# Altium integrated library TI Amplifiers and Linear Operational Amplifier High Speed.IntLib: 1100 symbols (part 8 of 44)
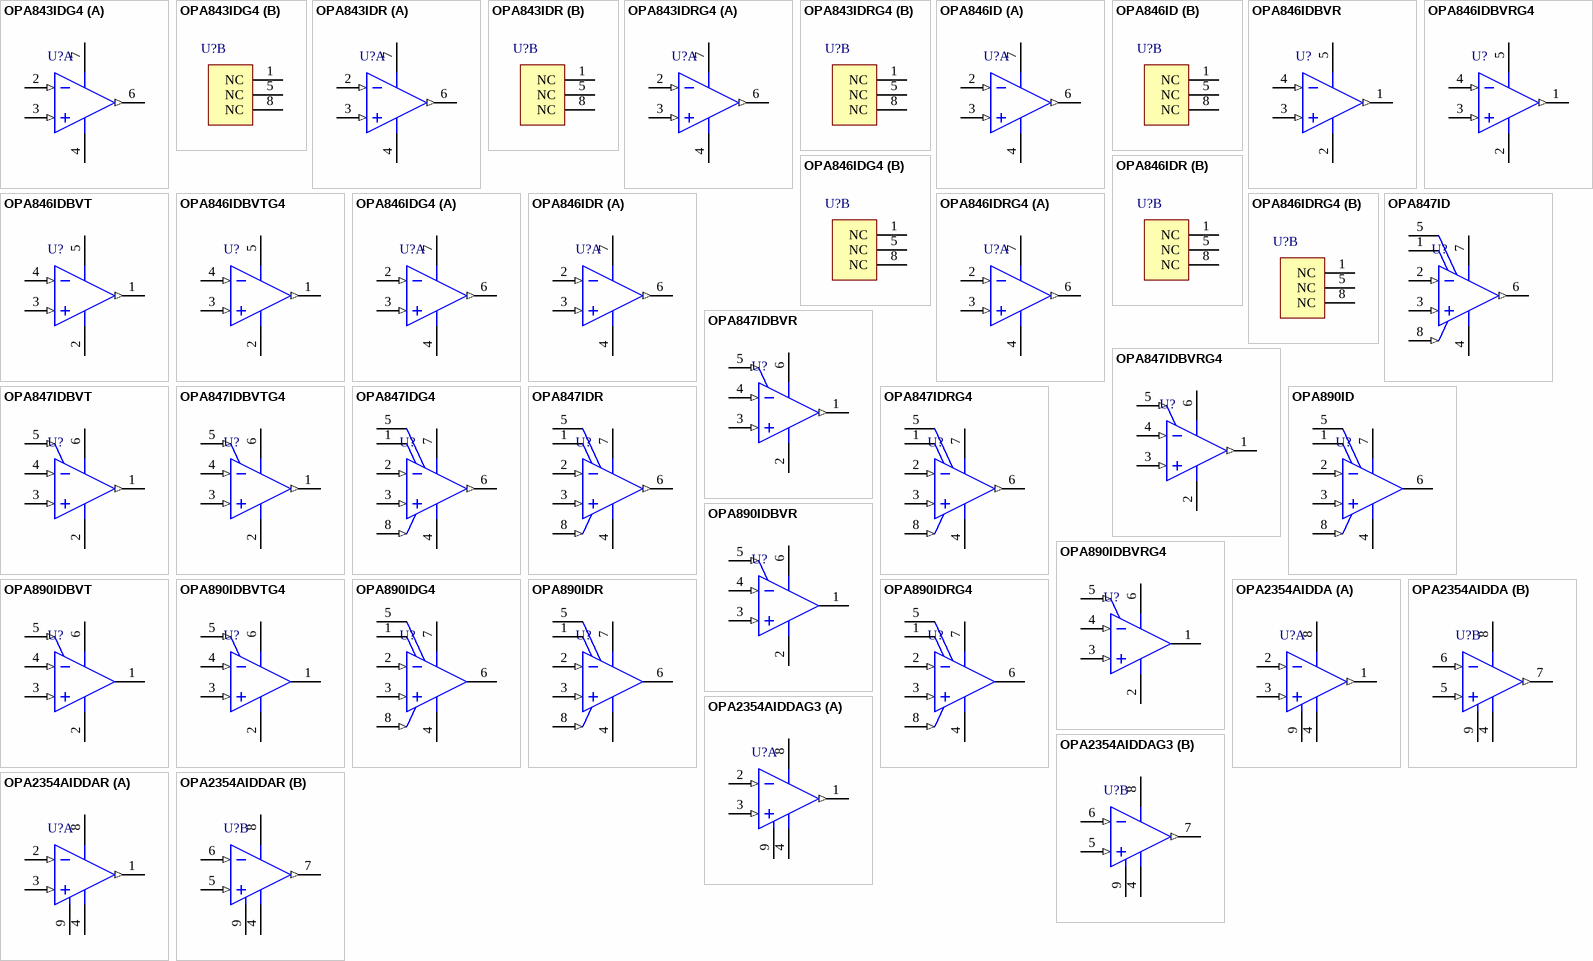
[diagram p58: symbols OPA843IDG4 to OPA2354AIDDAR]

## OPA843IDRG4
designator U?
Wideband, Low Distortion, Medium Gain, Voltage Feedback Operational Amplifier, 8 to 12 V, -40 to 85 degC, 8-pin SOIC (D8), Green (RoHS & no Sb/Br); Manufacturer: Texas Instruments; PartNumber: OPA843IDRG4; 2nd Harmonic(dBc): 96; 3rd Harmonic(dBc): 110; @ MHz: 5; Acl, min stable gain(V/V): 3; BW @ Acl(MHz): 500; Diff Gain(%): 0.001; Diff Phase(deg): 0.012; Iib(Max)(nA): 3700; Io(Typ)(mA): 100; Iq per channel(Max)(mA): 22.5; Number of Channels: 1; Settling Time (0.1%)(Typ)(ns): 7.5; Slew Rate(Typ)(V/us): 1000; Sub Family: High Output Current Amplifier (>=50mA), High Speed Amplifier (>=50MHz); THD (Fc is 1 MHz)(Typ)(dB): -95; Vio(Max)(mV): 1.5; Vn at Flatband(Typ)(nV/rtHz): 2; Vs(Max)(V): 12; Vs(Min)(V): 8; DatasheetVersion: SBOS268C; PackageVersion: 4040047-3/M, 06/2011; PackageReference: D8; PackageDescription: 8-Pin Plastic Small Outline, Body 4.9 x 3.9 mm, Pitch 1.27 mm; Supplier 1: Digi-Key; Supplier Part Number 1: OPA843IDRG4-ND; Supplier 2: Mouser; Supplier Part Number 2: 595-OPA843IDRG4; Eco-Plan: Green (RoHS & no Sb/Br); Mounting Technology: Surface Mount; Code_JEDEC: MS-012; ComponentLink1Description: Manufacturer URL; ComponentLink1URL: http://www.ti.com/; ComponentLink2Description: Datasheet; ComponentLink2URL: http://www.ti.com/general/docs/lit/getliterature.tsp?genericPartNumber=OPA843&fileType=pdf; ComponentLink3Description: Package Specification; ComponentLink3URL: http://www.ti.com/litv/pdf/msoi002j
footprint TI-D8_N (SOIC, 8-Leads, Body 4.9x3.9mm, Pitch 1.27mm, IPC Medium Density)
footprint TI-D8_L (SOIC, 8-Leads, Body 4.9x3.9mm, Pitch 1.27mm, IPC High Density)
footprint TI-D8_M (SOIC, 8-Leads, Body 4.9x3.9mm, Pitch 1.27mm, IPC Low Density)
part A pins: 2 IN- (in), 3 IN+ (in), 4 VS- (power), 6 OUT (out), 7 VS+ (power)
part B pins: 1 NC, 5 NC, 8 NC

## OPA846ID
designator U?
Wideband, Low Noise, Voltage Feedback Operational Amplifier, 10 to 12 V, -40 to 85 degC, 8-pin SOIC (D8), Green (RoHS & no Sb/Br); Manufacturer: Texas Instruments; PartNumber: OPA846ID; 2nd Harmonic(dBc): 100; 3rd Harmonic(dBc): 112; @ MHz: 5; Acl, min stable gain(V/V): 7; BW @ Acl(MHz): 500; Diff Gain(%): 0.02; Iib(Max)(nA): 21000; Io(Typ)(mA): 80; Iq per channel(Max)(mA): 13.2; Number of Channels: 1; Settling Time (0.1%)(Typ)(ns): 15; Slew Rate(Typ)(V/us): 625; Sub Family: High Output Current Amplifier (>=50mA), High Speed Amplifier (>=50MHz); THD (Fc is 1 MHz)(Typ)(dB): -92; Vio(Max)(mV): 0.6; Vn at Flatband(Typ)(nV/rtHz): 1.2; Vs(Max)(V): 12; Vs(Min)(V): 10; DatasheetVersion: SBOS250E; PackageVersion: 4040047-3/M, 06/2011; PackageReference: D8; PackageDescription: 8-Pin Plastic Small Outline, Body 4.9 x 3.9 mm, Pitch 1.27 mm; Supplier 1: Digi-Key; Supplier Part Number 1: 296-14775-5-ND; Supplier 2: Farnell; Supplier Part Number 2: 1212331; Supplier 3: Newark; Supplier Part Number 3: 01M8440; Supplier 4: Newark; Supplier Part Number 4: 61H5165; Supplier 5: Mouser; Supplier Part Number 5: 595-OPA846ID; Diff Phase(deg): 0.02; Eco-Plan: Green (RoHS & no Sb/Br); Mounting Technology: Surface Mount; Code_JEDEC: MS-012; ComponentLink1Description: Manufacturer URL; ComponentLink1URL: http://www.ti.com/; ComponentLink2Description: Datasheet; ComponentLink2URL: http://www.ti.com/general/docs/lit/getliterature.tsp?genericPartNumber=OPA846&fileType=pdf; ComponentLink3Description: Package Specification; ComponentLink3URL: http://www.ti.com/litv/pdf/msoi002j
footprint TI-D8_N (SOIC, 8-Leads, Body 4.9x3.9mm, Pitch 1.27mm, IPC Medium Density)
footprint TI-D8_L (SOIC, 8-Leads, Body 4.9x3.9mm, Pitch 1.27mm, IPC High Density)
footprint TI-D8_M (SOIC, 8-Leads, Body 4.9x3.9mm, Pitch 1.27mm, IPC Low Density)
part A pins: 2 IN- (in), 3 IN+ (in), 4 VS- (power), 6 OUT (out), 7 VS+ (power)
part B pins: 1 NC, 5 NC, 8 NC

## OPA846IDBVR
designator U?
Wideband, Low Noise, Voltage Feedback Operational Amplifier, 10 to 12 V, -40 to 85 degC, 5-pin SOT23 (DBV5), Green (RoHS & no Sb/Br); Manufacturer: Texas Instruments; PartNumber: OPA846IDBVR; 2nd Harmonic(dBc): 100; 3rd Harmonic(dBc): 112; @ MHz: 5; Acl, min stable gain(V/V): 7; BW @ Acl(MHz): 500; Diff Gain(%): 0.02; Iib(Max)(nA): 21000; Io(Typ)(mA): 80; Iq per channel(Max)(mA): 13.2; Number of Channels: 1; Settling Time (0.1%)(Typ)(ns): 15; Slew Rate(Typ)(V/us): 625; Sub Family: High Output Current Amplifier (>=50mA), High Speed Amplifier (>=50MHz); THD (Fc is 1 MHz)(Typ)(dB): -92; Vio(Max)(mV): 0.6; Vn at Flatband(Typ)(nV/rtHz): 1.2; Vs(Max)(V): 12; Vs(Min)(V): 10; DatasheetVersion: SBOS250E; PackageVersion: 4073253-4/K, 03/2006; PackageReference: DBV5; PackageDescription: 5-Pin Plastic Small Outline, Body 1.6 x 2.9 mm, Pitch 0.95 mm; Supplier 1: Digi-Key; Supplier Part Number 1: OPA846IDBVR-ND; Supplier 2: Newark; Supplier Part Number 2: 61H5166; Supplier 3: Mouser; Supplier Part Number 3: 595-OPA846IDBVR; Diff Phase(deg): 0.02; Eco-Plan: Green (RoHS & no Sb/Br); Mounting Technology: Surface Mount; Code_JEDEC: MO-178; ComponentLink1Description: Manufacturer URL; ComponentLink1URL: http://www.ti.com/; ComponentLink2Description: Datasheet; ComponentLink2URL: http://www.ti.com/general/docs/lit/getliterature.tsp?genericPartNumber=OPA846&fileType=pdf; ComponentLink3Description: Package Specification; ComponentLink3URL: http://www.ti.com/litv/pdf/mpds018i
footprint TI-DBV5_N (SOT23, 5-Leads, Body 2.9x1.6mm, Pitch 0.95mm, IPC Medium Density)
footprint TI-DBV5_L (SOT23, 5-Leads, Body 2.9x1.6mm, Pitch 0.95mm, IPC High Density)
footprint TI-DBV5_M (SOT23, 5-Leads, Body 2.9x1.6mm, Pitch 0.95mm, IPC Low Density)
pins: 1 OUT (out), 2 VS- (power), 3 IN+ (in), 4 IN- (in), 5 VS+ (power)

## OPA846IDBVRG4
designator U?
Wideband, Low Noise, Voltage Feedback Operational Amplifier, 10 to 12 V, -40 to 85 degC, 5-pin SOT23 (DBV5), Green (RoHS & no Sb/Br); Manufacturer: Texas Instruments; PartNumber: OPA846IDBVRG4; 2nd Harmonic(dBc): 100; 3rd Harmonic(dBc): 112; @ MHz: 5; Acl, min stable gain(V/V): 7; BW @ Acl(MHz): 500; Diff Gain(%): 0.02; Iib(Max)(nA): 21000; Io(Typ)(mA): 80; Iq per channel(Max)(mA): 13.2; Number of Channels: 1; Settling Time (0.1%)(Typ)(ns): 15; Slew Rate(Typ)(V/us): 625; Sub Family: High Output Current Amplifier (>=50mA), High Speed Amplifier (>=50MHz); THD (Fc is 1 MHz)(Typ)(dB): -92; Vio(Max)(mV): 0.6; Vn at Flatband(Typ)(nV/rtHz): 1.2; Vs(Max)(V): 12; Vs(Min)(V): 10; DatasheetVersion: SBOS250E; PackageVersion: 4073253-4/K, 03/2006; PackageReference: DBV5; PackageDescription: 5-Pin Plastic Small Outline, Body 1.6 x 2.9 mm, Pitch 0.95 mm; Supplier 1: Digi-Key; Supplier Part Number 1: OPA846IDBVRG4-ND; Supplier 2: Mouser; Supplier Part Number 2: 595-OPA846IDBVRG4; Diff Phase(deg): 0.02; Eco-Plan: Green (RoHS & no Sb/Br); Mounting Technology: Surface Mount; Code_JEDEC: MO-178; ComponentLink1Description: Manufacturer URL; ComponentLink1URL: http://www.ti.com/; ComponentLink2Description: Datasheet; ComponentLink2URL: http://www.ti.com/general/docs/lit/getliterature.tsp?genericPartNumber=OPA846&fileType=pdf; ComponentLink3Description: Package Specification; ComponentLink3URL: http://www.ti.com/litv/pdf/mpds018i
footprint TI-DBV5_N (SOT23, 5-Leads, Body 2.9x1.6mm, Pitch 0.95mm, IPC Medium Density)
footprint TI-DBV5_L (SOT23, 5-Leads, Body 2.9x1.6mm, Pitch 0.95mm, IPC High Density)
footprint TI-DBV5_M (SOT23, 5-Leads, Body 2.9x1.6mm, Pitch 0.95mm, IPC Low Density)
pins: 1 OUT (out), 2 VS- (power), 3 IN+ (in), 4 IN- (in), 5 VS+ (power)

## OPA846IDBVT
designator U?
Wideband, Low Noise, Voltage Feedback Operational Amplifier, 10 to 12 V, -40 to 85 degC, 5-pin SOT23 (DBV5), Green (RoHS & no Sb/Br); Manufacturer: Texas Instruments; PartNumber: OPA846IDBVT; 2nd Harmonic(dBc): 100; 3rd Harmonic(dBc): 112; @ MHz: 5; Acl, min stable gain(V/V): 7; BW @ Acl(MHz): 500; Diff Gain(%): 0.02; Iib(Max)(nA): 21000; Io(Typ)(mA): 80; Iq per channel(Max)(mA): 13.2; Number of Channels: 1; Settling Time (0.1%)(Typ)(ns): 15; Slew Rate(Typ)(V/us): 625; Sub Family: High Output Current Amplifier (>=50mA), High Speed Amplifier (>=50MHz); THD (Fc is 1 MHz)(Typ)(dB): -92; Vio(Max)(mV): 0.6; Vn at Flatband(Typ)(nV/rtHz): 1.2; Vs(Max)(V): 12; Vs(Min)(V): 10; DatasheetVersion: SBOS250E; PackageVersion: 4073253-4/K, 03/2006; PackageReference: DBV5; PackageDescription: 5-Pin Plastic Small Outline, Body 1.6 x 2.9 mm, Pitch 0.95 mm; Supplier 1: Digi-Key; Supplier Part Number 1: 296-14776-2-ND; Supplier 2: Digi-Key; Supplier Part Number 2: 296-14776-1-ND; Supplier 3: Digi-Key; Supplier Part Number 3: 296-14776-6-ND; Supplier 4: Farnell; Supplier Part Number 4: 8434328; Supplier 5: Newark; Supplier Part Number 5: 86W6072; Supplier 6: Newark; Supplier Part Number 6: 61H5167; Supplier 7: Mouser; Supplier Part Number 7: 595-OPA846IDBVT; Diff Phase(deg): 0.02; Eco-Plan: Green (RoHS & no Sb/Br); Mounting Technology: Surface Mount; Code_JEDEC: MO-178; ComponentLink1Description: Manufacturer URL; ComponentLink1URL: http://www.ti.com/; ComponentLink2Description: Datasheet; ComponentLink2URL: http://www.ti.com/general/docs/lit/getliterature.tsp?genericPartNumber=OPA846&fileType=pdf; ComponentLink3Description: Package Specification; ComponentLink3URL: http://www.ti.com/litv/pdf/mpds018i
footprint TI-DBV5_N (SOT23, 5-Leads, Body 2.9x1.6mm, Pitch 0.95mm, IPC Medium Density)
footprint TI-DBV5_L (SOT23, 5-Leads, Body 2.9x1.6mm, Pitch 0.95mm, IPC High Density)
footprint TI-DBV5_M (SOT23, 5-Leads, Body 2.9x1.6mm, Pitch 0.95mm, IPC Low Density)
pins: 1 OUT (out), 2 VS- (power), 3 IN+ (in), 4 IN- (in), 5 VS+ (power)

## OPA846IDBVTG4
designator U?
Wideband, Low Noise, Voltage Feedback Operational Amplifier, 10 to 12 V, -40 to 85 degC, 5-pin SOT23 (DBV5), Green (RoHS & no Sb/Br); Manufacturer: Texas Instruments; PartNumber: OPA846IDBVTG4; 2nd Harmonic(dBc): 100; 3rd Harmonic(dBc): 112; @ MHz: 5; Acl, min stable gain(V/V): 7; BW @ Acl(MHz): 500; Diff Gain(%): 0.02; Iib(Max)(nA): 21000; Io(Typ)(mA): 80; Iq per channel(Max)(mA): 13.2; Number of Channels: 1; Settling Time (0.1%)(Typ)(ns): 15; Slew Rate(Typ)(V/us): 625; Sub Family: High Output Current Amplifier (>=50mA), High Speed Amplifier (>=50MHz); THD (Fc is 1 MHz)(Typ)(dB): -92; Vio(Max)(mV): 0.6; Vn at Flatband(Typ)(nV/rtHz): 1.2; Vs(Max)(V): 12; Vs(Min)(V): 10; DatasheetVersion: SBOS250E; PackageVersion: 4073253-4/K, 03/2006; PackageReference: DBV5; PackageDescription: 5-Pin Plastic Small Outline, Body 1.6 x 2.9 mm, Pitch 0.95 mm; Supplier 1: Digi-Key; Supplier Part Number 1: OPA846IDBVTG4-ND; Supplier 2: Farnell; Supplier Part Number 2: 1207078; Supplier 3: Newark; Supplier Part Number 3: 81K3714; Supplier 4: Mouser; Supplier Part Number 4: 595-OPA846IDBVTG4; Diff Phase(deg): 0.02; Eco-Plan: Green (RoHS & no Sb/Br); Mounting Technology: Surface Mount; Code_JEDEC: MO-178; ComponentLink1Description: Manufacturer URL; ComponentLink1URL: http://www.ti.com/; ComponentLink2Description: Datasheet; ComponentLink2URL: http://www.ti.com/general/docs/lit/getliterature.tsp?genericPartNumber=OPA846&fileType=pdf; ComponentLink3Description: Package Specification; ComponentLink3URL: http://www.ti.com/litv/pdf/mpds018i
footprint TI-DBV5_N (SOT23, 5-Leads, Body 2.9x1.6mm, Pitch 0.95mm, IPC Medium Density)
footprint TI-DBV5_L (SOT23, 5-Leads, Body 2.9x1.6mm, Pitch 0.95mm, IPC High Density)
footprint TI-DBV5_M (SOT23, 5-Leads, Body 2.9x1.6mm, Pitch 0.95mm, IPC Low Density)
pins: 1 OUT (out), 2 VS- (power), 3 IN+ (in), 4 IN- (in), 5 VS+ (power)

## OPA846IDG4
designator U?
Wideband, Low Noise, Voltage Feedback Operational Amplifier, 10 to 12 V, -40 to 85 degC, 8-pin SOIC (D8), Green (RoHS & no Sb/Br); Manufacturer: Texas Instruments; PartNumber: OPA846IDG4; 2nd Harmonic(dBc): 100; 3rd Harmonic(dBc): 112; @ MHz: 5; Acl, min stable gain(V/V): 7; BW @ Acl(MHz): 500; Diff Gain(%): 0.02; Iib(Max)(nA): 21000; Io(Typ)(mA): 80; Iq per channel(Max)(mA): 13.2; Number of Channels: 1; Settling Time (0.1%)(Typ)(ns): 15; Slew Rate(Typ)(V/us): 625; Sub Family: High Output Current Amplifier (>=50mA), High Speed Amplifier (>=50MHz); THD (Fc is 1 MHz)(Typ)(dB): -92; Vio(Max)(mV): 0.6; Vn at Flatband(Typ)(nV/rtHz): 1.2; Vs(Max)(V): 12; Vs(Min)(V): 10; DatasheetVersion: SBOS250E; PackageVersion: 4040047-3/M, 06/2011; PackageReference: D8; PackageDescription: 8-Pin Plastic Small Outline, Body 4.9 x 3.9 mm, Pitch 1.27 mm; Supplier 1: Digi-Key; Supplier Part Number 1: OPA846IDG4-ND; Supplier 2: Mouser; Supplier Part Number 2: 595-OPA846IDG4; Diff Phase(deg): 0.02; Eco-Plan: Green (RoHS & no Sb/Br); Mounting Technology: Surface Mount; Code_JEDEC: MS-012; ComponentLink1Description: Manufacturer URL; ComponentLink1URL: http://www.ti.com/; ComponentLink2Description: Datasheet; ComponentLink2URL: http://www.ti.com/general/docs/lit/getliterature.tsp?genericPartNumber=OPA846&fileType=pdf; ComponentLink3Description: Package Specification; ComponentLink3URL: http://www.ti.com/litv/pdf/msoi002j
footprint TI-D8_N (SOIC, 8-Leads, Body 4.9x3.9mm, Pitch 1.27mm, IPC Medium Density)
footprint TI-D8_L (SOIC, 8-Leads, Body 4.9x3.9mm, Pitch 1.27mm, IPC High Density)
footprint TI-D8_M (SOIC, 8-Leads, Body 4.9x3.9mm, Pitch 1.27mm, IPC Low Density)
part A pins: 2 IN- (in), 3 IN+ (in), 4 VS- (power), 6 OUT (out), 7 VS+ (power)
part B pins: 1 NC, 5 NC, 8 NC

## OPA846IDR
designator U?
Wideband, Low Noise, Voltage Feedback Operational Amplifier, 10 to 12 V, -40 to 85 degC, 8-pin SOIC (D8), Green (RoHS & no Sb/Br); Manufacturer: Texas Instruments; PartNumber: OPA846IDR; 2nd Harmonic(dBc): 100; 3rd Harmonic(dBc): 112; @ MHz: 5; Acl, min stable gain(V/V): 7; BW @ Acl(MHz): 500; Diff Gain(%): 0.02; Iib(Max)(nA): 21000; Io(Typ)(mA): 80; Iq per channel(Max)(mA): 13.2; Number of Channels: 1; Settling Time (0.1%)(Typ)(ns): 15; Slew Rate(Typ)(V/us): 625; Sub Family: High Output Current Amplifier (>=50mA), High Speed Amplifier (>=50MHz); THD (Fc is 1 MHz)(Typ)(dB): -92; Vio(Max)(mV): 0.6; Vn at Flatband(Typ)(nV/rtHz): 1.2; Vs(Max)(V): 12; Vs(Min)(V): 10; DatasheetVersion: SBOS250E; PackageVersion: 4040047-3/M, 06/2011; PackageReference: D8; PackageDescription: 8-Pin Plastic Small Outline, Body 4.9 x 3.9 mm, Pitch 1.27 mm; Supplier 1: Digi-Key; Supplier Part Number 1: OPA846IDR-ND; Supplier 2: Mouser; Supplier Part Number 2: 595-OPA846IDR; Diff Phase(deg): 0.02; Eco-Plan: Green (RoHS & no Sb/Br); Mounting Technology: Surface Mount; Code_JEDEC: MS-012; ComponentLink1Description: Manufacturer URL; ComponentLink1URL: http://www.ti.com/; ComponentLink2Description: Datasheet; ComponentLink2URL: http://www.ti.com/general/docs/lit/getliterature.tsp?genericPartNumber=OPA846&fileType=pdf; ComponentLink3Description: Package Specification; ComponentLink3URL: http://www.ti.com/litv/pdf/msoi002j
footprint TI-D8_N (SOIC, 8-Leads, Body 4.9x3.9mm, Pitch 1.27mm, IPC Medium Density)
footprint TI-D8_L (SOIC, 8-Leads, Body 4.9x3.9mm, Pitch 1.27mm, IPC High Density)
footprint TI-D8_M (SOIC, 8-Leads, Body 4.9x3.9mm, Pitch 1.27mm, IPC Low Density)
part A pins: 2 IN- (in), 3 IN+ (in), 4 VS- (power), 6 OUT (out), 7 VS+ (power)
part B pins: 1 NC, 5 NC, 8 NC

## OPA846IDRG4
designator U?
Wideband, Low Noise, Voltage Feedback Operational Amplifier, 10 to 12 V, -40 to 85 degC, 8-pin SOIC (D8), Green (RoHS & no Sb/Br); Manufacturer: Texas Instruments; PartNumber: OPA846IDRG4; 2nd Harmonic(dBc): 100; 3rd Harmonic(dBc): 112; @ MHz: 5; Acl, min stable gain(V/V): 7; BW @ Acl(MHz): 500; Diff Gain(%): 0.02; Iib(Max)(nA): 21000; Io(Typ)(mA): 80; Iq per channel(Max)(mA): 13.2; Number of Channels: 1; Settling Time (0.1%)(Typ)(ns): 10; Slew Rate(Typ)(V/us): 625; Sub Family: High Output Current Amplifier (>=50mA), High Speed Amplifier (>=50MHz); THD (Fc is 1 MHz)(Typ)(dB): -92; Vio(Max)(mV): 0.6; Vn at Flatband(Typ)(nV/rtHz): 1.2; Vs(Max)(V): 12; DatasheetVersion: SBOS250E; PackageVersion: 4040047-3/M, 06/2011; PackageReference: D8; PackageDescription: 8-Pin Plastic Small Outline, Body 4.9 x 3.9 mm, Pitch 1.27 mm; Supplier 1: Digi-Key; Supplier Part Number 1: OPA846IDRG4-ND; Supplier 2: Mouser; Supplier Part Number 2: 595-OPA846IDRG4; Diff Phase(deg): 0.02; Eco-Plan: Green (RoHS & no Sb/Br); Vs(Min)(V): 10; Mounting Technology: Surface Mount; Code_JEDEC: MS-012; ComponentLink1Description: Manufacturer URL; ComponentLink1URL: http://www.ti.com/; ComponentLink2Description: Datasheet; ComponentLink2URL: http://www.ti.com/general/docs/lit/getliterature.tsp?genericPartNumber=OPA846&fileType=pdf; ComponentLink3Description: Package Specification; ComponentLink3URL: http://www.ti.com/litv/pdf/msoi002j
footprint TI-D8_N (SOIC, 8-Leads, Body 4.9x3.9mm, Pitch 1.27mm, IPC Medium Density)
footprint TI-D8_L (SOIC, 8-Leads, Body 4.9x3.9mm, Pitch 1.27mm, IPC High Density)
footprint TI-D8_M (SOIC, 8-Leads, Body 4.9x3.9mm, Pitch 1.27mm, IPC Low Density)
part A pins: 2 IN- (in), 3 IN+ (in), 4 VS- (power), 6 OUT (out), 7 VS+ (power)
part B pins: 1 NC, 5 NC, 8 NC

## OPA847ID
designator U?
Wideband, Ultra-Low Noise, Voltage Feedback Operational Amplifier with Shutdown, 10 to 12 V, -40 to 85 degC, 8-pin SOIC (D8), Green (RoHS & no Sb/Br); Manufacturer: Texas Instruments; PartNumber: OPA847ID; 2nd Harmonic(dBc): 105; 3rd Harmonic(dBc): 110; @ MHz: 5; Acl, min stable gain(V/V): 12; BW @ Acl(MHz): 600; Iib(Max)(nA): 42000; Io(Typ)(mA): 75; Iq per channel(Max)(mA): 18.9; Number of Channels: 1; Settling Time (0.1%)(Typ)(ns): 20; Slew Rate(Typ)(V/us): 950; Sub Family: High Output Current Amplifier (>=50mA), High Speed Amplifier (>=50MHz), Low Offset Voltage Amplifier (<=500uV); THD (Fc is 1 MHz)(Typ)(dB): -96; Vio(Max)(mV): 0.5; Vn at Flatband(Typ)(nV/rtHz): 0.85; Vs(Min)(V): 10; DatasheetVersion: SBOS251E; PackageVersion: 4040047-3/M, 06/2011; PackageReference: D8; PackageDescription: 8-Pin Plastic Small Outline, Body 4.9 x 3.9 mm, Pitch 1.27 mm; Supplier 1: Digi-Key; Supplier Part Number 1: 296-15171-5-ND; Supplier 2: Farnell; Supplier Part Number 2: 2118343; Supplier 3: Newark; Supplier Part Number 3: 04M6520; Supplier 4: Mouser; Supplier Part Number 4: 595-OPA847ID; Eco-Plan: Green (RoHS & no Sb/Br); Vs(Max)(V): 12; Mounting Technology: Surface Mount; Code_JEDEC: MS-012; ComponentLink1Description: Manufacturer URL; ComponentLink1URL: http://www.ti.com/; ComponentLink2Description: Datasheet; ComponentLink2URL: http://www.ti.com/general/docs/lit/getliterature.tsp?genericPartNumber=OPA847&fileType=pdf; ComponentLink3Description: Package Specification; ComponentLink3URL: http://www.ti.com/litv/pdf/msoi002j
footprint TI-D8_N (SOIC, 8-Leads, Body 4.9x3.9mm, Pitch 1.27mm, IPC Medium Density)
footprint TI-D8_L (SOIC, 8-Leads, Body 4.9x3.9mm, Pitch 1.27mm, IPC High Density)
footprint TI-D8_M (SOIC, 8-Leads, Body 4.9x3.9mm, Pitch 1.27mm, IPC Low Density)
pins: 1 NC, 2 IN- (in), 3 IN+ (in), 4 VS- (power), 5 NC, 6 OUT (out), 7 VS+ (power), 8 ~{DIS} (in)

## OPA847IDBVR
designator U?
Wideband, Ultra-Low Noise, Voltage Feedback Operational Amplifier with Shutdown, 10 to 12 V, -40 to 85 degC, 6-pin SOT23 (DBV6), Green (RoHS & no Sb/Br); Manufacturer: Texas Instruments; PartNumber: OPA847IDBVR; 2nd Harmonic(dBc): 105; 3rd Harmonic(dBc): 110; @ MHz: 5; Acl, min stable gain(V/V): 12; BW @ Acl(MHz): 600; Iib(Max)(nA): 42000; Io(Typ)(mA): 75; Iq per channel(Max)(mA): 18.9; Number of Channels: 1; Settling Time (0.1%)(Typ)(ns): 20; Slew Rate(Typ)(V/us): 950; Sub Family: High Output Current Amplifier (>=50mA), High Speed Amplifier (>=50MHz), Low Offset Voltage Amplifier (<=500uV); THD (Fc is 1 MHz)(Typ)(dB): -96; Vio(Max)(mV): 0.5; Vn at Flatband(Typ)(nV/rtHz): 0.85; Vs(Min)(V): 10; DatasheetVersion: SBOS251E; PackageVersion: 4073253-5/K, 03/2006; PackageReference: DBV6; PackageDescription: 6-Pin Plastic Small Outline, Body 1.6 x 2.9 mm, Pitch 0.95 mm; Supplier 1: Digi-Key; Supplier Part Number 1: OPA847IDBVR-ND; Supplier 2: Newark; Supplier Part Number 2: 73H4300; Supplier 3: Mouser; Supplier Part Number 3: 595-OPA847IDBVR; Eco-Plan: Green (RoHS & no Sb/Br); Vs(Max)(V): 12; Mounting Technology: Surface Mount; Code_JEDEC: MO-178; ComponentLink1Description: Manufacturer URL; ComponentLink1URL: http://www.ti.com/; ComponentLink2Description: Datasheet; ComponentLink2URL: http://www.ti.com/general/docs/lit/getliterature.tsp?genericPartNumber=OPA847&fileType=pdf; ComponentLink3Description: Package Specification; ComponentLink3URL: http://www.ti.com/litv/pdf/mpds026h
footprint TI-DBV6_N (SOT23, 6-Leads, Body 2.9x1.6mm, Pitch 0.95mm, IPC Medium Density)
footprint TI-DBV6_L (SOT23, 6-Leads, Body 2.9x1.6mm, Pitch 0.95mm, IPC High Density)
footprint TI-DBV6_M (SOT23, 6-Leads, Body 2.9x1.6mm, Pitch 0.95mm, IPC Low Density)
pins: 1 OUT (out), 2 VS- (power), 3 IN+ (in), 4 IN- (in), 5 ~{DIS} (in), 6 VS+ (power)

## OPA847IDBVRG4
designator U?
Wideband, Ultra-Low Noise, Voltage Feedback Operational Amplifier with Shutdown, 10 to 12 V, -40 to 85 degC, 6-pin SOT23 (DBV6), Green (RoHS & no Sb/Br); Manufacturer: Texas Instruments; PartNumber: OPA847IDBVRG4; 2nd Harmonic(dBc): 105; 3rd Harmonic(dBc): 110; @ MHz: 5; Acl, min stable gain(V/V): 12; BW @ Acl(MHz): 600; Iib(Max)(nA): 42000; Io(Typ)(mA): 75; Iq per channel(Max)(mA): 18.9; Number of Channels: 1; Settling Time (0.1%)(Typ)(ns): 20; Slew Rate(Typ)(V/us): 950; Sub Family: High Output Current Amplifier (>=50mA), High Speed Amplifier (>=50MHz), Low Offset Voltage Amplifier (<=500uV); THD (Fc is 1 MHz)(Typ)(dB): -96; Vio(Max)(mV): 0.5; Vn at Flatband(Typ)(nV/rtHz): 0.85; Vs(Min)(V): 10; DatasheetVersion: SBOS251E; PackageVersion: 4073253-5/K, 03/2006; PackageReference: DBV6; PackageDescription: 6-Pin Plastic Small Outline, Body 1.6 x 2.9 mm, Pitch 0.95 mm; Supplier 1: Digi-Key; Supplier Part Number 1: OPA847IDBVRG4-ND; Supplier 2: Newark; Supplier Part Number 2: 24K4703; Supplier 3: Mouser; Supplier Part Number 3: 595-OPA847IDBVRG4; Eco-Plan: Green (RoHS & no Sb/Br); Vs(Max)(V): 12; Mounting Technology: Surface Mount; Code_JEDEC: MO-178; ComponentLink1Description: Manufacturer URL; ComponentLink1URL: http://www.ti.com/; ComponentLink2Description: Datasheet; ComponentLink2URL: http://www.ti.com/general/docs/lit/getliterature.tsp?genericPartNumber=OPA847&fileType=pdf; ComponentLink3Description: Package Specification; ComponentLink3URL: http://www.ti.com/litv/pdf/mpds026h
footprint TI-DBV6_N (SOT23, 6-Leads, Body 2.9x1.6mm, Pitch 0.95mm, IPC Medium Density)
footprint TI-DBV6_L (SOT23, 6-Leads, Body 2.9x1.6mm, Pitch 0.95mm, IPC High Density)
footprint TI-DBV6_M (SOT23, 6-Leads, Body 2.9x1.6mm, Pitch 0.95mm, IPC Low Density)
pins: 1 OUT (out), 2 VS- (power), 3 IN+ (in), 4 IN- (in), 5 ~{DIS} (in), 6 VS+ (power)

## OPA847IDBVT
designator U?
Wideband, Ultra-Low Noise, Voltage Feedback Operational Amplifier with Shutdown, 10 to 12 V, -40 to 85 degC, 6-pin SOT23 (DBV6), Green (RoHS & no Sb/Br); Manufacturer: Texas Instruments; PartNumber: OPA847IDBVT; 2nd Harmonic(dBc): 105; 3rd Harmonic(dBc): 110; @ MHz: 5; Acl, min stable gain(V/V): 12; BW @ Acl(MHz): 600; Iib(Max)(nA): 42000; Io(Typ)(mA): 75; Iq per channel(Max)(mA): 18.9; Number of Channels: 1; Settling Time (0.1%)(Typ)(ns): 20; Slew Rate(Typ)(V/us): 950; Sub Family: High Output Current Amplifier (>=50mA), High Speed Amplifier (>=50MHz), Low Offset Voltage Amplifier (<=500uV); THD (Fc is 1 MHz)(Typ)(dB): -96; Vio(Max)(mV): 0.5; Vn at Flatband(Typ)(nV/rtHz): 0.85; Vs(Min)(V): 10; DatasheetVersion: SBOS251E; PackageVersion: 4073253-5/K, 03/2006; PackageReference: DBV6; PackageDescription: 6-Pin Plastic Small Outline, Body 1.6 x 2.9 mm, Pitch 0.95 mm; Supplier 1: Digi-Key; Supplier Part Number 1: 296-15172-2-ND; Supplier 2: Digi-Key; Supplier Part Number 2: 296-15172-1-ND; Supplier 3: Digi-Key; Supplier Part Number 3: 296-15172-6-ND; Supplier 4: Farnell; Supplier Part Number 4: 1564933; Supplier 5: Newark; Supplier Part Number 5: 73H4301; Supplier 6: Mouser; Supplier Part Number 6: 595-OPA847IDBVT; Eco-Plan: Green (RoHS & no Sb/Br); Vs(Max)(V): 12; Mounting Technology: Surface Mount; Code_JEDEC: MO-178; ComponentLink1Description: Manufacturer URL; ComponentLink1URL: http://www.ti.com/; ComponentLink2Description: Datasheet; ComponentLink2URL: http://www.ti.com/general/docs/lit/getliterature.tsp?genericPartNumber=OPA847&fileType=pdf; ComponentLink3Description: Package Specification; ComponentLink3URL: http://www.ti.com/litv/pdf/mpds026h
footprint TI-DBV6_N (SOT23, 6-Leads, Body 2.9x1.6mm, Pitch 0.95mm, IPC Medium Density)
footprint TI-DBV6_L (SOT23, 6-Leads, Body 2.9x1.6mm, Pitch 0.95mm, IPC High Density)
footprint TI-DBV6_M (SOT23, 6-Leads, Body 2.9x1.6mm, Pitch 0.95mm, IPC Low Density)
pins: 1 OUT (out), 2 VS- (power), 3 IN+ (in), 4 IN- (in), 5 ~{DIS} (in), 6 VS+ (power)

## OPA847IDBVTG4
designator U?
Wideband, Ultra-Low Noise, Voltage Feedback Operational Amplifier with Shutdown, 10 to 12 V, -40 to 85 degC, 6-pin SOT23 (DBV6), Green (RoHS & no Sb/Br); Manufacturer: Texas Instruments; PartNumber: OPA847IDBVTG4; 2nd Harmonic(dBc): 105; 3rd Harmonic(dBc): 110; @ MHz: 5; Acl, min stable gain(V/V): 12; BW @ Acl(MHz): 600; Iib(Max)(nA): 42000; Io(Typ)(mA): 75; Iq per channel(Max)(mA): 18.9; Number of Channels: 1; Settling Time (0.1%)(Typ)(ns): 20; Slew Rate(Typ)(V/us): 950; Sub Family: High Output Current Amplifier (>=50mA), High Speed Amplifier (>=50MHz), Low Offset Voltage Amplifier (<=500uV); THD (Fc is 1 MHz)(Typ)(dB): -96; Vio(Max)(mV): 0.5; Vn at Flatband(Typ)(nV/rtHz): 0.85; Vs(Min)(V): 10; DatasheetVersion: SBOS251E; PackageVersion: 4073253-5/K, 03/2006; PackageReference: DBV6; PackageDescription: 6-Pin Plastic Small Outline, Body 1.6 x 2.9 mm, Pitch 0.95 mm; Supplier 1: Digi-Key; Supplier Part Number 1: OPA847IDBVTG4-ND; Supplier 2: Farnell; Supplier Part Number 2: 1207080; Supplier 3: Newark; Supplier Part Number 3: 97K6866; Supplier 4: Newark; Supplier Part Number 4: 73K9274; Supplier 5: Mouser; Supplier Part Number 5: 595-OPA847IDBVTG4; Eco-Plan: Green (RoHS & no Sb/Br); Vs(Max)(V): 12; Mounting Technology: Surface Mount; Code_JEDEC: MO-178; ComponentLink1Description: Manufacturer URL; ComponentLink1URL: http://www.ti.com/; ComponentLink2Description: Datasheet; ComponentLink2URL: http://www.ti.com/general/docs/lit/getliterature.tsp?genericPartNumber=OPA847&fileType=pdf; ComponentLink3Description: Package Specification; ComponentLink3URL: http://www.ti.com/litv/pdf/mpds026h
footprint TI-DBV6_N (SOT23, 6-Leads, Body 2.9x1.6mm, Pitch 0.95mm, IPC Medium Density)
footprint TI-DBV6_L (SOT23, 6-Leads, Body 2.9x1.6mm, Pitch 0.95mm, IPC High Density)
footprint TI-DBV6_M (SOT23, 6-Leads, Body 2.9x1.6mm, Pitch 0.95mm, IPC Low Density)
pins: 1 OUT (out), 2 VS- (power), 3 IN+ (in), 4 IN- (in), 5 ~{DIS} (in), 6 VS+ (power)

## OPA847IDG4
designator U?
Wideband, Ultra-Low Noise, Voltage Feedback Operational Amplifier with Shutdown, 10 to 12 V, -40 to 85 degC, 8-pin SOIC (D8), Green (RoHS & no Sb/Br); Manufacturer: Texas Instruments; PartNumber: OPA847IDG4; 2nd Harmonic(dBc): 105; 3rd Harmonic(dBc): 110; @ MHz: 5; Acl, min stable gain(V/V): 12; BW @ Acl(MHz): 600; Iib(Max)(nA): 42000; Io(Typ)(mA): 75; Iq per channel(Max)(mA): 18.9; Number of Channels: 1; Settling Time (0.1%)(Typ)(ns): 20; Slew Rate(Typ)(V/us): 950; Sub Family: High Output Current Amplifier (>=50mA), High Speed Amplifier (>=50MHz), Low Offset Voltage Amplifier (<=500uV); THD (Fc is 1 MHz)(Typ)(dB): -96; Vio(Max)(mV): 0.5; Vn at Flatband(Typ)(nV/rtHz): 0.85; Vs(Min)(V): 10; DatasheetVersion: SBOS251E; PackageVersion: 4040047-3/M, 06/2011; PackageReference: D8; PackageDescription: 8-Pin Plastic Small Outline, Body 4.9 x 3.9 mm, Pitch 1.27 mm; Supplier 1: Digi-Key; Supplier Part Number 1: OPA847IDG4-ND; Supplier 2: Farnell; Supplier Part Number 2: 1207079; Supplier 3: Newark; Supplier Part Number 3: 97K6867; Supplier 4: Newark; Supplier Part Number 4: 81K3715; Supplier 5: Mouser; Supplier Part Number 5: 595-OPA847IDG4; Eco-Plan: Green (RoHS & no Sb/Br); Vs(Max)(V): 12; Mounting Technology: Surface Mount; Code_JEDEC: MS-012; ComponentLink1Description: Manufacturer URL; ComponentLink1URL: http://www.ti.com/; ComponentLink2Description: Datasheet; ComponentLink2URL: http://www.ti.com/general/docs/lit/getliterature.tsp?genericPartNumber=OPA847&fileType=pdf; ComponentLink3Description: Package Specification; ComponentLink3URL: http://www.ti.com/litv/pdf/msoi002j
footprint TI-D8_N (SOIC, 8-Leads, Body 4.9x3.9mm, Pitch 1.27mm, IPC Medium Density)
footprint TI-D8_L (SOIC, 8-Leads, Body 4.9x3.9mm, Pitch 1.27mm, IPC High Density)
footprint TI-D8_M (SOIC, 8-Leads, Body 4.9x3.9mm, Pitch 1.27mm, IPC Low Density)
pins: 1 NC, 2 IN- (in), 3 IN+ (in), 4 VS- (power), 5 NC, 6 OUT (out), 7 VS+ (power), 8 ~{DIS} (in)

## OPA847IDR
designator U?
Wideband, Ultra-Low Noise, Voltage Feedback Operational Amplifier with Shutdown, 10 to 12 V, -40 to 85 degC, 8-pin SOIC (D8), Green (RoHS & no Sb/Br); Manufacturer: Texas Instruments; PartNumber: OPA847IDR; 2nd Harmonic(dBc): 105; 3rd Harmonic(dBc): 110; @ MHz: 5; Acl, min stable gain(V/V): 12; BW @ Acl(MHz): 600; Iib(Max)(nA): 42000; Io(Typ)(mA): 75; Iq per channel(Max)(mA): 18.9; Number of Channels: 1; Settling Time (0.1%)(Typ)(ns): 20; Slew Rate(Typ)(V/us): 950; Sub Family: High Output Current Amplifier (>=50mA), High Speed Amplifier (>=50MHz), Low Offset Voltage Amplifier (<=500uV); THD (Fc is 1 MHz)(Typ)(dB): -96; Vio(Max)(mV): 0.5; Vn at Flatband(Typ)(nV/rtHz): 0.85; Vs(Min)(V): 10; DatasheetVersion: SBOS251E; PackageVersion: 4040047-3/M, 06/2011; PackageReference: D8; PackageDescription: 8-Pin Plastic Small Outline, Body 4.9 x 3.9 mm, Pitch 1.27 mm; Supplier 1: Digi-Key; Supplier Part Number 1: OPA847IDR-ND; Supplier 2: Newark; Supplier Part Number 2: 73H4302; Supplier 3: Mouser; Supplier Part Number 3: 595-OPA847IDR; Eco-Plan: Green (RoHS & no Sb/Br); Vs(Max)(V): 12; Mounting Technology: Surface Mount; Code_JEDEC: MS-012; ComponentLink1Description: Manufacturer URL; ComponentLink1URL: http://www.ti.com/; ComponentLink2Description: Datasheet; ComponentLink2URL: http://www.ti.com/general/docs/lit/getliterature.tsp?genericPartNumber=OPA847&fileType=pdf; ComponentLink3Description: Package Specification; ComponentLink3URL: http://www.ti.com/litv/pdf/msoi002j
footprint TI-D8_N (SOIC, 8-Leads, Body 4.9x3.9mm, Pitch 1.27mm, IPC Medium Density)
footprint TI-D8_L (SOIC, 8-Leads, Body 4.9x3.9mm, Pitch 1.27mm, IPC High Density)
footprint TI-D8_M (SOIC, 8-Leads, Body 4.9x3.9mm, Pitch 1.27mm, IPC Low Density)
pins: 1 NC, 2 IN- (in), 3 IN+ (in), 4 VS- (power), 5 NC, 6 OUT (out), 7 VS+ (power), 8 ~{DIS} (in)

## OPA847IDRG4
designator U?
Wideband, Ultra-Low Noise, Voltage Feedback Operational Amplifier with Shutdown, 10 to 12 V, -40 to 85 degC, 8-pin SOIC (D8), Green (RoHS & no Sb/Br); Manufacturer: Texas Instruments; PartNumber: OPA847IDRG4; 2nd Harmonic(dBc): 105; 3rd Harmonic(dBc): 110; @ MHz: 5; Acl, min stable gain(V/V): 12; BW @ Acl(MHz): 600; Iib(Max)(nA): 42000; Io(Typ)(mA): 75; Iq per channel(Max)(mA): 18.9; Number of Channels: 1; Settling Time (0.1%)(Typ)(ns): 10; Slew Rate(Typ)(V/us): 950; Sub Family: High Output Current Amplifier (>=50mA), High Speed Amplifier (>=50MHz), Low Offset Voltage Amplifier (<=500uV); THD (Fc is 1 MHz)(Typ)(dB): -96; Vio(Max)(mV): 0.5; Vn at Flatband(Typ)(nV/rtHz): 0.85; DatasheetVersion: SBOS251E; PackageVersion: 4040047-3/M, 06/2011; PackageReference: D8; PackageDescription: 8-Pin Plastic Small Outline, Body 4.9 x 3.9 mm, Pitch 1.27 mm; Supplier 1: Digi-Key; Supplier Part Number 1: OPA847IDRG4-ND; Supplier 2: Mouser; Supplier Part Number 2: 595-OPA847IDRG4; Eco-Plan: Green (RoHS & no Sb/Br); Vs(Max)(V): 12; Vs(Min)(V): 10; Mounting Technology: Surface Mount; Code_JEDEC: MS-012; ComponentLink1Description: Manufacturer URL; ComponentLink1URL: http://www.ti.com/; ComponentLink2Description: Datasheet; ComponentLink2URL: http://www.ti.com/general/docs/lit/getliterature.tsp?genericPartNumber=OPA847&fileType=pdf; ComponentLink3Description: Package Specification; ComponentLink3URL: http://www.ti.com/litv/pdf/msoi002j
footprint TI-D8_N (SOIC, 8-Leads, Body 4.9x3.9mm, Pitch 1.27mm, IPC Medium Density)
footprint TI-D8_L (SOIC, 8-Leads, Body 4.9x3.9mm, Pitch 1.27mm, IPC High Density)
footprint TI-D8_M (SOIC, 8-Leads, Body 4.9x3.9mm, Pitch 1.27mm, IPC Low Density)
pins: 1 NC, 2 IN- (in), 3 IN+ (in), 4 VS- (power), 5 NC, 6 OUT (out), 7 VS+ (power), 8 ~{DIS} (in)

## OPA890ID
designator U?
Low Power, Wideband, Voltage Feedback Operational Amplifier with Disable, 3 to 12 V, -40 to 85 degC, 8-pin SOIC (D8), Green (RoHS & no Sb/Br); Manufacturer: Texas Instruments; PartNumber: OPA890ID; 2nd Harmonic(dBc): 88; 3rd Harmonic(dBc): 89; @ MHz: 1; BW @ Acl(MHz): 260; Diff Gain(%): 0.05; Diff Phase(deg): 0.03; Iib(Max)(nA): 2000; Io(Typ)(mA): 40; Iq per channel(Max)(mA): 1.2; Settling Time (0.1%)(Typ)(ns): 10; Slew Rate(Typ)(V/us): 500; Sub Family: High Speed Amplifier (>=50MHz); THD (Fc is 1 MHz)(Typ)(dB): -87; Vio(Max)(mV): 6; Vn at Flatband(Typ)(nV/rtHz): 8; Vs(Max)(V): 12; Vs(Min)(V): 3; DatasheetVersion: SBOS369B; PackageVersion: 4040047-3/M, 06/2011; PackageReference: D8; PackageDescription: 8-Pin Plastic Small Outline, Body 4.9 x 3.9 mm, Pitch 1.27 mm; Supplier 1: Digi-Key; Supplier Part Number 1: 296-21959-5-ND; Supplier 2: Farnell; Supplier Part Number 2: 1603399; Supplier 3: Newark; Supplier Part Number 3: 12N2334; Supplier 4: Newark; Supplier Part Number 4: 48M0893; Supplier 5: Mouser; Supplier Part Number 5: 595-OPA890ID; Acl, min stable gain(V/V): 1; Eco-Plan: Green (RoHS & no Sb/Br); Number of Channels: 1; Mounting Technology: Surface Mount; Code_JEDEC: MS-012; ComponentLink1Description: Manufacturer URL; ComponentLink1URL: http://www.ti.com/; ComponentLink2Description: Datasheet; ComponentLink2URL: http://www.ti.com/general/docs/lit/getliterature.tsp?genericPartNumber=OPA890&fileType=pdf; ComponentLink3Description: Package Specification; ComponentLink3URL: http://www.ti.com/litv/pdf/msoi002j
footprint TI-D8_N (SOIC, 8-Leads, Body 4.9x3.9mm, Pitch 1.27mm, IPC Medium Density)
footprint TI-D8_L (SOIC, 8-Leads, Body 4.9x3.9mm, Pitch 1.27mm, IPC High Density)
footprint TI-D8_M (SOIC, 8-Leads, Body 4.9x3.9mm, Pitch 1.27mm, IPC Low Density)
pins: 1 NC, 2 IN- (in), 3 IN+ (in), 4 VS- (power), 5 NC, 6 OUT (hiz), 7 VS+ (power), 8 ~{DIS} (in)

## OPA890IDBVR
designator U?
Low Power, Wideband, Voltage Feedback Operational Amplifier with Disable, 3 to 12 V, -40 to 85 degC, 6-pin SOT23 (DBV6), Green (RoHS & no Sb/Br); Manufacturer: Texas Instruments; PartNumber: OPA890IDBVR; 2nd Harmonic(dBc): 88; 3rd Harmonic(dBc): 89; @ MHz: 1; BW @ Acl(MHz): 260; Diff Gain(%): 0.05; Diff Phase(deg): 0.03; Iib(Max)(nA): 2000; Io(Typ)(mA): 40; Iq per channel(Max)(mA): 1.2; Settling Time (0.1%)(Typ)(ns): 10; Slew Rate(Typ)(V/us): 500; Sub Family: High Speed Amplifier (>=50MHz); THD (Fc is 1 MHz)(Typ)(dB): -87; Vio(Max)(mV): 6; Vn at Flatband(Typ)(nV/rtHz): 8; Vs(Max)(V): 12; Vs(Min)(V): 3; DatasheetVersion: SBOS369B; PackageVersion: 4073253-5/K, 03/2006; PackageReference: DBV6; PackageDescription: 6-Pin Plastic Small Outline, Body 1.6 x 2.9 mm, Pitch 0.95 mm; Supplier 1: Digi-Key; Supplier Part Number 1: OPA890IDBVR-ND; Supplier 2: Newark; Supplier Part Number 2: 48M0894; Supplier 3: Mouser; Supplier Part Number 3: 595-OPA890IDBVR; Acl, min stable gain(V/V): 1; Eco-Plan: Green (RoHS & no Sb/Br); Number of Channels: 1; Mounting Technology: Surface Mount; Code_JEDEC: MO-178; ComponentLink1Description: Manufacturer URL; ComponentLink1URL: http://www.ti.com/; ComponentLink2Description: Datasheet; ComponentLink2URL: http://www.ti.com/general/docs/lit/getliterature.tsp?genericPartNumber=OPA890&fileType=pdf; ComponentLink3Description: Package Specification; ComponentLink3URL: http://www.ti.com/litv/pdf/mpds026h
footprint TI-DBV6_N (SOT23, 6-Leads, Body 2.9x1.6mm, Pitch 0.95mm, IPC Medium Density)
footprint TI-DBV6_L (SOT23, 6-Leads, Body 2.9x1.6mm, Pitch 0.95mm, IPC High Density)
footprint TI-DBV6_M (SOT23, 6-Leads, Body 2.9x1.6mm, Pitch 0.95mm, IPC Low Density)
pins: 1 OUT (hiz), 2 VS- (power), 3 IN+ (in), 4 IN- (in), 5 ~{DIS} (in), 6 VS+ (power)

## OPA890IDBVRG4
designator U?
Low Power, Wideband, Voltage Feedback Operational Amplifier with Disable, 3 to 12 V, -40 to 85 degC, 6-pin SOT23 (DBV6), Green (RoHS & no Sb/Br); Manufacturer: Texas Instruments; PartNumber: OPA890IDBVRG4; 2nd Harmonic(dBc): 88; 3rd Harmonic(dBc): 89; @ MHz: 1; BW @ Acl(MHz): 260; Diff Gain(%): 0.05; Diff Phase(deg): 0.03; Iib(Max)(nA): 2000; Io(Typ)(mA): 40; Iq per channel(Max)(mA): 1.2; Settling Time (0.1%)(Typ)(ns): 10; Slew Rate(Typ)(V/us): 500; Sub Family: High Speed Amplifier (>=50MHz); THD (Fc is 1 MHz)(Typ)(dB): -87; Vio(Max)(mV): 6; Vn at Flatband(Typ)(nV/rtHz): 8; Vs(Max)(V): 12; Vs(Min)(V): 3; DatasheetVersion: SBOS369B; PackageVersion: 4073253-5/K, 03/2006; PackageReference: DBV6; PackageDescription: 6-Pin Plastic Small Outline, Body 1.6 x 2.9 mm, Pitch 0.95 mm; Supplier 1: Digi-Key; Supplier Part Number 1: OPA890IDBVRG4-ND; Supplier 2: Mouser; Supplier Part Number 2: 595-OPA890IDBVRG4; Acl, min stable gain(V/V): 1; Eco-Plan: Green (RoHS & no Sb/Br); Number of Channels: 1; Mounting Technology: Surface Mount; Code_JEDEC: MO-178; ComponentLink1Description: Manufacturer URL; ComponentLink1URL: http://www.ti.com/; ComponentLink2Description: Datasheet; ComponentLink2URL: http://www.ti.com/general/docs/lit/getliterature.tsp?genericPartNumber=OPA890&fileType=pdf; ComponentLink3Description: Package Specification; ComponentLink3URL: http://www.ti.com/litv/pdf/mpds026h
footprint TI-DBV6_N (SOT23, 6-Leads, Body 2.9x1.6mm, Pitch 0.95mm, IPC Medium Density)
footprint TI-DBV6_L (SOT23, 6-Leads, Body 2.9x1.6mm, Pitch 0.95mm, IPC High Density)
footprint TI-DBV6_M (SOT23, 6-Leads, Body 2.9x1.6mm, Pitch 0.95mm, IPC Low Density)
pins: 1 OUT (hiz), 2 VS- (power), 3 IN+ (in), 4 IN- (in), 5 ~{DIS} (in), 6 VS+ (power)

## OPA890IDBVT
designator U?
Low Power, Wideband, Voltage Feedback Operational Amplifier with Disable, 3 to 12 V, -40 to 85 degC, 6-pin SOT23 (DBV6), Green (RoHS & no Sb/Br); Manufacturer: Texas Instruments; PartNumber: OPA890IDBVT; 2nd Harmonic(dBc): 88; 3rd Harmonic(dBc): 89; @ MHz: 1; BW @ Acl(MHz): 260; Diff Gain(%): 0.05; Diff Phase(deg): 0.03; Iib(Max)(nA): 2000; Io(Typ)(mA): 40; Iq per channel(Max)(mA): 1.2; Settling Time (0.1%)(Typ)(ns): 10; Slew Rate(Typ)(V/us): 500; Sub Family: High Speed Amplifier (>=50MHz); THD (Fc is 1 MHz)(Typ)(dB): -87; Vio(Max)(mV): 6; Vn at Flatband(Typ)(nV/rtHz): 8; Vs(Max)(V): 12; Vs(Min)(V): 3; DatasheetVersion: SBOS369B; PackageVersion: 4073253-5/K, 03/2006; PackageReference: DBV6; PackageDescription: 6-Pin Plastic Small Outline, Body 1.6 x 2.9 mm, Pitch 0.95 mm; Supplier 1: Digi-Key; Supplier Part Number 1: 296-21960-2-ND; Supplier 2: Digi-Key; Supplier Part Number 2: 296-21960-1-ND; Supplier 3: Digi-Key; Supplier Part Number 3: 296-21960-6-ND; Supplier 4: Newark; Supplier Part Number 4: 48M0895; Supplier 5: Mouser; Supplier Part Number 5: 595-OPA890IDBVT; Acl, min stable gain(V/V): 1; Eco-Plan: Green (RoHS & no Sb/Br); Number of Channels: 1; Mounting Technology: Surface Mount; Code_JEDEC: MO-178; ComponentLink1Description: Manufacturer URL; ComponentLink1URL: http://www.ti.com/; ComponentLink2Description: Datasheet; ComponentLink2URL: http://www.ti.com/general/docs/lit/getliterature.tsp?genericPartNumber=OPA890&fileType=pdf; ComponentLink3Description: Package Specification; ComponentLink3URL: http://www.ti.com/litv/pdf/mpds026h
footprint TI-DBV6_N (SOT23, 6-Leads, Body 2.9x1.6mm, Pitch 0.95mm, IPC Medium Density)
footprint TI-DBV6_L (SOT23, 6-Leads, Body 2.9x1.6mm, Pitch 0.95mm, IPC High Density)
footprint TI-DBV6_M (SOT23, 6-Leads, Body 2.9x1.6mm, Pitch 0.95mm, IPC Low Density)
pins: 1 OUT (hiz), 2 VS- (power), 3 IN+ (in), 4 IN- (in), 5 ~{DIS} (in), 6 VS+ (power)

## OPA890IDBVTG4
designator U?
Low Power, Wideband, Voltage Feedback Operational Amplifier with Disable, 3 to 12 V, -40 to 85 degC, 6-pin SOT23 (DBV6), Green (RoHS & no Sb/Br); Manufacturer: Texas Instruments; PartNumber: OPA890IDBVTG4; 2nd Harmonic(dBc): 88; 3rd Harmonic(dBc): 89; @ MHz: 1; BW @ Acl(MHz): 260; Diff Gain(%): 0.05; Diff Phase(deg): 0.03; Iib(Max)(nA): 2000; Io(Typ)(mA): 40; Iq per channel(Max)(mA): 1.2; Settling Time (0.1%)(Typ)(ns): 10; Slew Rate(Typ)(V/us): 500; Sub Family: High Speed Amplifier (>=50MHz); THD (Fc is 1 MHz)(Typ)(dB): -87; Vio(Max)(mV): 6; Vn at Flatband(Typ)(nV/rtHz): 8; Vs(Max)(V): 12; Vs(Min)(V): 3; DatasheetVersion: SBOS369B; PackageVersion: 4073253-5/K, 03/2006; PackageReference: DBV6; PackageDescription: 6-Pin Plastic Small Outline, Body 1.6 x 2.9 mm, Pitch 0.95 mm; Supplier 1: Digi-Key; Supplier Part Number 1: OPA890IDBVTG4-ND; Supplier 2: Newark; Supplier Part Number 2: 52M5933; Supplier 3: Mouser; Supplier Part Number 3: 595-OPA890IDBVTG4; Acl, min stable gain(V/V): 1; Eco-Plan: Green (RoHS & no Sb/Br); Number of Channels: 1; Mounting Technology: Surface Mount; Code_JEDEC: MO-178; ComponentLink1Description: Manufacturer URL; ComponentLink1URL: http://www.ti.com/; ComponentLink2Description: Datasheet; ComponentLink2URL: http://www.ti.com/general/docs/lit/getliterature.tsp?genericPartNumber=OPA890&fileType=pdf; ComponentLink3Description: Package Specification; ComponentLink3URL: http://www.ti.com/litv/pdf/mpds026h
footprint TI-DBV6_N (SOT23, 6-Leads, Body 2.9x1.6mm, Pitch 0.95mm, IPC Medium Density)
footprint TI-DBV6_L (SOT23, 6-Leads, Body 2.9x1.6mm, Pitch 0.95mm, IPC High Density)
footprint TI-DBV6_M (SOT23, 6-Leads, Body 2.9x1.6mm, Pitch 0.95mm, IPC Low Density)
pins: 1 OUT (hiz), 2 VS- (power), 3 IN+ (in), 4 IN- (in), 5 ~{DIS} (in), 6 VS+ (power)

## OPA890IDG4
designator U?
Low Power, Wideband, Voltage Feedback Operational Amplifier with Disable, 3 to 12 V, -40 to 85 degC, 8-pin SOIC (D8), Green (RoHS & no Sb/Br); Manufacturer: Texas Instruments; PartNumber: OPA890IDG4; 2nd Harmonic(dBc): 88; 3rd Harmonic(dBc): 89; @ MHz: 1; BW @ Acl(MHz): 260; Diff Gain(%): 0.05; Diff Phase(deg): 0.03; Iib(Max)(nA): 2000; Io(Typ)(mA): 40; Iq per channel(Max)(mA): 1.2; Settling Time (0.1%)(Typ)(ns): 10; Slew Rate(Typ)(V/us): 500; Sub Family: High Speed Amplifier (>=50MHz); THD (Fc is 1 MHz)(Typ)(dB): -87; Vio(Max)(mV): 6; Vn at Flatband(Typ)(nV/rtHz): 8; Vs(Max)(V): 12; Vs(Min)(V): 3; DatasheetVersion: SBOS369B; PackageVersion: 4040047-3/M, 06/2011; PackageReference: D8; PackageDescription: 8-Pin Plastic Small Outline, Body 4.9 x 3.9 mm, Pitch 1.27 mm; Supplier 1: Digi-Key; Supplier Part Number 1: OPA890IDG4-ND; Supplier 2: Mouser; Supplier Part Number 2: 595-OPA890IDG4; Acl, min stable gain(V/V): 1; Eco-Plan: Green (RoHS & no Sb/Br); Number of Channels: 1; Mounting Technology: Surface Mount; Code_JEDEC: MS-012; ComponentLink1Description: Manufacturer URL; ComponentLink1URL: http://www.ti.com/; ComponentLink2Description: Datasheet; ComponentLink2URL: http://www.ti.com/general/docs/lit/getliterature.tsp?genericPartNumber=OPA890&fileType=pdf; ComponentLink3Description: Package Specification; ComponentLink3URL: http://www.ti.com/litv/pdf/msoi002j
footprint TI-D8_N (SOIC, 8-Leads, Body 4.9x3.9mm, Pitch 1.27mm, IPC Medium Density)
footprint TI-D8_L (SOIC, 8-Leads, Body 4.9x3.9mm, Pitch 1.27mm, IPC High Density)
footprint TI-D8_M (SOIC, 8-Leads, Body 4.9x3.9mm, Pitch 1.27mm, IPC Low Density)
pins: 1 NC, 2 IN- (in), 3 IN+ (in), 4 VS- (power), 5 NC, 6 OUT (hiz), 7 VS+ (power), 8 ~{DIS} (in)

## OPA890IDR
designator U?
Low Power, Wideband, Voltage Feedback Operational Amplifier with Disable, 3 to 12 V, -40 to 85 degC, 8-pin SOIC (D8), Green (RoHS & no Sb/Br); Manufacturer: Texas Instruments; PartNumber: OPA890IDR; 2nd Harmonic(dBc): 88; 3rd Harmonic(dBc): 89; @ MHz: 1; BW @ Acl(MHz): 260; Diff Gain(%): 0.05; Diff Phase(deg): 0.03; Iib(Max)(nA): 2000; Io(Typ)(mA): 40; Iq per channel(Max)(mA): 1.2; Settling Time (0.1%)(Typ)(ns): 10; Slew Rate(Typ)(V/us): 500; Sub Family: High Speed Amplifier (>=50MHz); THD (Fc is 1 MHz)(Typ)(dB): -87; Vio(Max)(mV): 6; Vn at Flatband(Typ)(nV/rtHz): 8; Vs(Max)(V): 12; Vs(Min)(V): 3; DatasheetVersion: SBOS369B; PackageVersion: 4040047-3/M, 06/2011; PackageReference: D8; PackageDescription: 8-Pin Plastic Small Outline, Body 4.9 x 3.9 mm, Pitch 1.27 mm; Supplier 1: Digi-Key; Supplier Part Number 1: OPA890IDR-ND; Supplier 2: Newark; Supplier Part Number 2: 48M0896; Supplier 3: Mouser; Supplier Part Number 3: 595-OPA890IDR; Acl, min stable gain(V/V): 1; Eco-Plan: Green (RoHS & no Sb/Br); Number of Channels: 1; Mounting Technology: Surface Mount; Code_JEDEC: MS-012; ComponentLink1Description: Manufacturer URL; ComponentLink1URL: http://www.ti.com/; ComponentLink2Description: Datasheet; ComponentLink2URL: http://www.ti.com/general/docs/lit/getliterature.tsp?genericPartNumber=OPA890&fileType=pdf; ComponentLink3Description: Package Specification; ComponentLink3URL: http://www.ti.com/litv/pdf/msoi002j
footprint TI-D8_N (SOIC, 8-Leads, Body 4.9x3.9mm, Pitch 1.27mm, IPC Medium Density)
footprint TI-D8_L (SOIC, 8-Leads, Body 4.9x3.9mm, Pitch 1.27mm, IPC High Density)
footprint TI-D8_M (SOIC, 8-Leads, Body 4.9x3.9mm, Pitch 1.27mm, IPC Low Density)
pins: 1 NC, 2 IN- (in), 3 IN+ (in), 4 VS- (power), 5 NC, 6 OUT (hiz), 7 VS+ (power), 8 ~{DIS} (in)

## OPA890IDRG4
designator U?
Low Power, Wideband, Voltage Feedback Operational Amplifier with Disable, 3 to 12 V, -40 to 85 degC, 8-pin SOIC (D8), Green (RoHS & no Sb/Br); Manufacturer: Texas Instruments; PartNumber: OPA890IDRG4; 2nd Harmonic(dBc): 88; 3rd Harmonic(dBc): 89; @ MHz: 1; BW @ Acl(MHz): 260; Diff Gain(%): 0.05; Diff Phase(deg): 0.03; Iib(Max)(nA): 2000; Io(Typ)(mA): 40; Iq per channel(Max)(mA): 1.2; Settling Time (0.1%)(Typ)(ns): 10; Slew Rate(Typ)(V/us): 500; Sub Family: High Speed Amplifier (>=50MHz); THD (Fc is 1 MHz)(Typ)(dB): -87; Vio(Max)(mV): 6; Vn at Flatband(Typ)(nV/rtHz): 8; Vs(Max)(V): 12; Vs(Min)(V): 3; DatasheetVersion: SBOS369B; PackageVersion: 4040047-3/M, 06/2011; PackageReference: D8; PackageDescription: 8-Pin Plastic Small Outline, Body 4.9 x 3.9 mm, Pitch 1.27 mm; Supplier 1: Digi-Key; Supplier Part Number 1: OPA890IDRG4-ND; Supplier 2: Mouser; Supplier Part Number 2: 595-OPA890IDRG4; Acl, min stable gain(V/V): 1; Eco-Plan: Green (RoHS & no Sb/Br); Number of Channels: 1; Mounting Technology: Surface Mount; Code_JEDEC: MS-012; ComponentLink1Description: Manufacturer URL; ComponentLink1URL: http://www.ti.com/; ComponentLink2Description: Datasheet; ComponentLink2URL: http://www.ti.com/general/docs/lit/getliterature.tsp?genericPartNumber=OPA890&fileType=pdf; ComponentLink3Description: Package Specification; ComponentLink3URL: http://www.ti.com/litv/pdf/msoi002j
footprint TI-D8_N (SOIC, 8-Leads, Body 4.9x3.9mm, Pitch 1.27mm, IPC Medium Density)
footprint TI-D8_L (SOIC, 8-Leads, Body 4.9x3.9mm, Pitch 1.27mm, IPC High Density)
footprint TI-D8_M (SOIC, 8-Leads, Body 4.9x3.9mm, Pitch 1.27mm, IPC Low Density)
pins: 1 NC, 2 IN- (in), 3 IN+ (in), 4 VS- (power), 5 NC, 6 OUT (hiz), 7 VS+ (power), 8 ~{DIS} (in)

## OPA2354AIDDA
designator U?
250 MHz, Rail-to-Rail I/O, CMOS Dual Operational Amplifier, 2.7 to 5.5 V, -40 to 125 degC, 8-pin SOP (DDA8), Green (RoHS & no Sb/Br); Manufacturer: Texas Instruments; PartNumber: OPA2354AIDDA; 2nd Harmonic(dBc): 75; 3rd Harmonic(dBc): 83; @ MHz: 1; BW @ Acl(MHz): 250; Diff Gain(%): 0.02; Diff Phase(deg): 0.09; Iib(Max)(nA): 0.05; Io(Typ)(mA): 100; Iq per channel(Max)(mA): 7.5; Number of Channels: 2; Rail-Rail: In, Out; Settling Time (0.1%)(Typ)(ns): 30; Slew Rate(Typ)(V/us): 150; Sub Family: High Output Current Amplifier (>=50mA), High Speed Amplifier (>=50MHz), Low Supply Voltage Amplifier (<=2.7V); THD (Fc is 1 MHz)(Typ)(dB): -73; Vio(Max)(mV): 8; Vn at Flatband(Typ)(nV/rtHz): 6.5; Vs(Max)(V): 5.5; Vs(Min)(V): 2.7; DatasheetVersion: SBOS233E; PackageVersion: 4202561/F, 12/2011; PackageReference: DDA8-1775X1775TP; PackageDescription: 8-Pin PowerPAD(TM) Plastic Small Outline, Body 4.9 x 3.9 mm, Pitch 1.27 mm; Supplier 1: Digi-Key; Supplier Part Number 1: 296-13784-5-ND; Supplier 2: Farnell; Supplier Part Number 2: 1212444; Supplier 3: Newark; Supplier Part Number 3: 01M8400; Supplier 4: Newark; Supplier Part Number 4: 02E6711; Supplier 5: Mouser; Supplier Part Number 5: 595-OPA2354AIDDA; Acl, min stable gain(V/V): 1; Eco-Plan: Green (RoHS & no Sb/Br); Mounting Technology: Surface Mount; Code_JEDEC: MS-012; ComponentLink1Description: Manufacturer URL; ComponentLink1URL: http://www.ti.com/; ComponentLink2Description: Datasheet; ComponentLink2URL: http://www.ti.com/general/docs/lit/getliterature.tsp?genericPartNumber=OPA2354&fileType=pdf; ComponentLink3Description: Package Specification; ComponentLink3URL: http://www.ti.com/litv/pdf/mpds092e
footprint TI-DDA8-1775X1775TP_N (SOP, 8-Leads, Body 4.9x3.9mm, Pitch 1.27mm, Thermal Pad 1.775x1.775mm, IPC Medium Density)
footprint TI-DDA8-1775X1775TP_L (SOP, 8-Leads, Body 4.9x3.9mm, Pitch 1.27mm, Thermal Pad 1.775x1.775mm, IPC High Density)
footprint TI-DDA8-1775X1775TP_M (SOP, 8-Leads, Body 4.9x3.9mm, Pitch 1.27mm, Thermal Pad 1.775x1.775mm, IPC Low Density)
pins on every part: 4 V- (power), 8 V+ (power), 9 EP (power)
part A pins: 1 OUT A (out), 2 IN A- (in), 3 IN A+ (in)
part B pins: 5 IN B+ (in), 6 IN B- (in), 7 OUT B (out)